# Altium schematic symbol library Crystals, Oscillators, Resonators.SchLib: 9 symbols
Pins are listed as number, name and electrical type; pins without a type are passive.

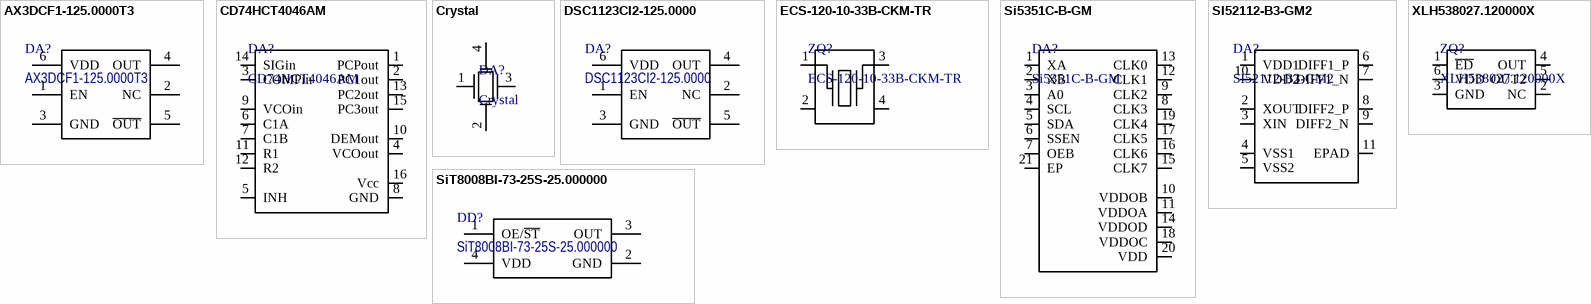
[diagram p0: symbols AX3DCF1-125.0000T3 to XLH538027.120000X]

## AX3DCF1-125.0000T3
designator DA?
Standard Clock Oscillators MEMS Oscillator, High Perf, Single LVDS Output, -40C-85C, 25ppm
footprint AX3DCF1-125.0000T3
pins: 1 EN, 2 NC, 3 GND, 4 OUT, 5 ~{OUT}, 6 VDD

## CD74HCT4046AM
designator DA?
Phase Locked Loops - PLL PLL w/ VCO
footprint SOIC-16Ti
pins: 1 PCPout, 2 PC1out, 3 COMPin, 4 VCOout, 5 INH, 6 C1A, 7 C1B, 8 GND, 9 VCOin, 10 DEMout, 11 R1, 12 R2, 13 PC2out, 14 SIGin, 15 PC3out, 16 Vcc

## Crystal
designator DA?
footprint Crystal 5032
pins: 1, 2, 3, 4

## DSC1123CI2-125.0000
designator DA?
Standard Clock Oscillators MEMS Oscillator, High Perf, Single LVDS Output, -40C-85C, 25ppm
footprint VDFN
pins: 1 EN, 2 NC, 3 GND, 4 OUT, 5 ~{OUT}, 6 VDD

## ECS-120-10-33B-CKM-TR
designator ZQ?
CRYSTAL 12.0000MHZ 10PF SMD
footprint ECS-120-10-33B-CKM-TR
pins: 1, 2, 3, 4

## Si5351C-B-GM
designator DA?
Clock Generator IC 200MHz 1 20-VFQFN Exposed Pad
footprint QFN-20
pins: 1 XA, 2 XB, 3 A0, 4 SCL, 5 SDA, 6 SSEN, 7 OEB, 8 CLK3, 9 CLK2, 10 VDDOB, 11 VDDOA, 12 CLK1, 13 CLK0, 14 VDDOD, 15 CLK7, 16 CLK6, 17 CLK5, 18 VDDOC, 19 CLK4, 20 VDD, 21 EP

## SI52112-B3-GM2
designator DA?
Clock Generators & Support Products 2-output PCIe Gen 2 clock generator
footprint TDFN-10
pins: 1 VDD1, 2 XOUT, 3 XIN, 4 VSS1, 5 VSS2, 6 DIFF1_P, 7 DIFF1_N, 8 DIFF2_P, 9 DIFF2_N, 10 VDD2, 11 EPAD

## SiT8008BI-73-25S-25.000000
designator DD?
Standard Clock Oscillators -40 to 85C, 2016, 50ppm, 2.5V, 25MHz, ST,
footprint 4L_PQFN (2.0X2.5X0.75 mm)
pins: 1 OE/~{ST}, 2 GND, 3 OUT, 4 VDD

## XLH538027.120000X
designator ZQ?
27.12 MHz XO (Standard) HCMOS Oscillator 3.3V Enable/Disable 6-SMD, No Lead
footprint XLH538027.120000X
pins: 1 ~{ED}, 2 NC, 3 GND, 4 OUT, 5 OUT2, 6 VDD